# Altium schematic symbol library ENC_ROTARY_20PPR_TH.SchLib: 1 symbol
Pins are listed as number, name and electrical type; pins without a type are passive.

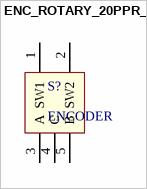
[diagram p0: symbol ENC_ROTARY_20PPR_TH]

## ENC_ROTARY_20PPR_TH
designator S?, comment ENCODER
Rotary Encoder Mechanical 20 Quadrature (Incremental) Vertical; Supplier 1: Digi-Key; Supplier Part Number 1: PEC11L-4115F-S0020-ND
footprint ENC_ROTARY_20PPR_TH
pins: 1 SW1, 2 SW2, 3 A, 4 C, 5 B